# Altium footprint library 22057045.PcbLib: 1 footprints
Each footprint in its own frame and in the unit in brackets; x right, y up, seen from the top. Pads: shape width x height; smd on the part's side, far side on the other; paste and mask are expansions set on the pad; w line width, h text height; cw(c..) or ccw(c..) is an arc to the next point about the centre after c.
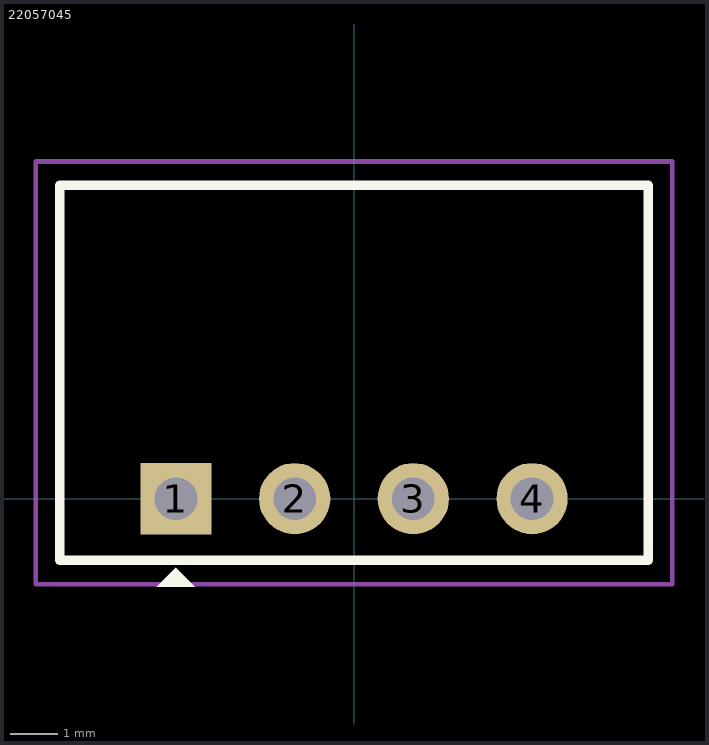
[diagram p0: the footprint, top view; thin cyan lines are the x and y axes]

## 22057045 [mm]
pads (4):
  rect 1.5x1.5 hole 0.9 mask+0.076: 1(-3.75,0)
  round 1.5 hole 0.9 mask+0.076: 2(-1.25,0) 3(1.25,0) 4(3.75,0)
Top Overlay:
  region: -3.35,-1.85 -4.15,-1.85 -3.75,-1.45
  lines w0.2: -6.2,-1.3 -6.2,6.6 6.2,6.6 6.2,-1.3 -6.2,-1.3
Top Courtyard:
  lines w0.1: -6.7,-1.8 -6.7,7.1 6.7,7.1 6.7,-1.8 -6.7,-1.8
3D body "022057045.stp": height 5.1, standoff -3.3, extent -6.2,-1.3 6.2,6.6